# Altium footprint library Vyrodov.PcbLib: 62 footprints (part 1 of 5)
Each footprint in its own frame and in the unit in brackets; x right, y up, seen from the top. Pads: shape width x height; smd on the part's side, far side on the other; paste and mask are expansions set on the pad; w line width, h text height; cw(c..) or ccw(c..) is an arc to the next point about the centre after c.
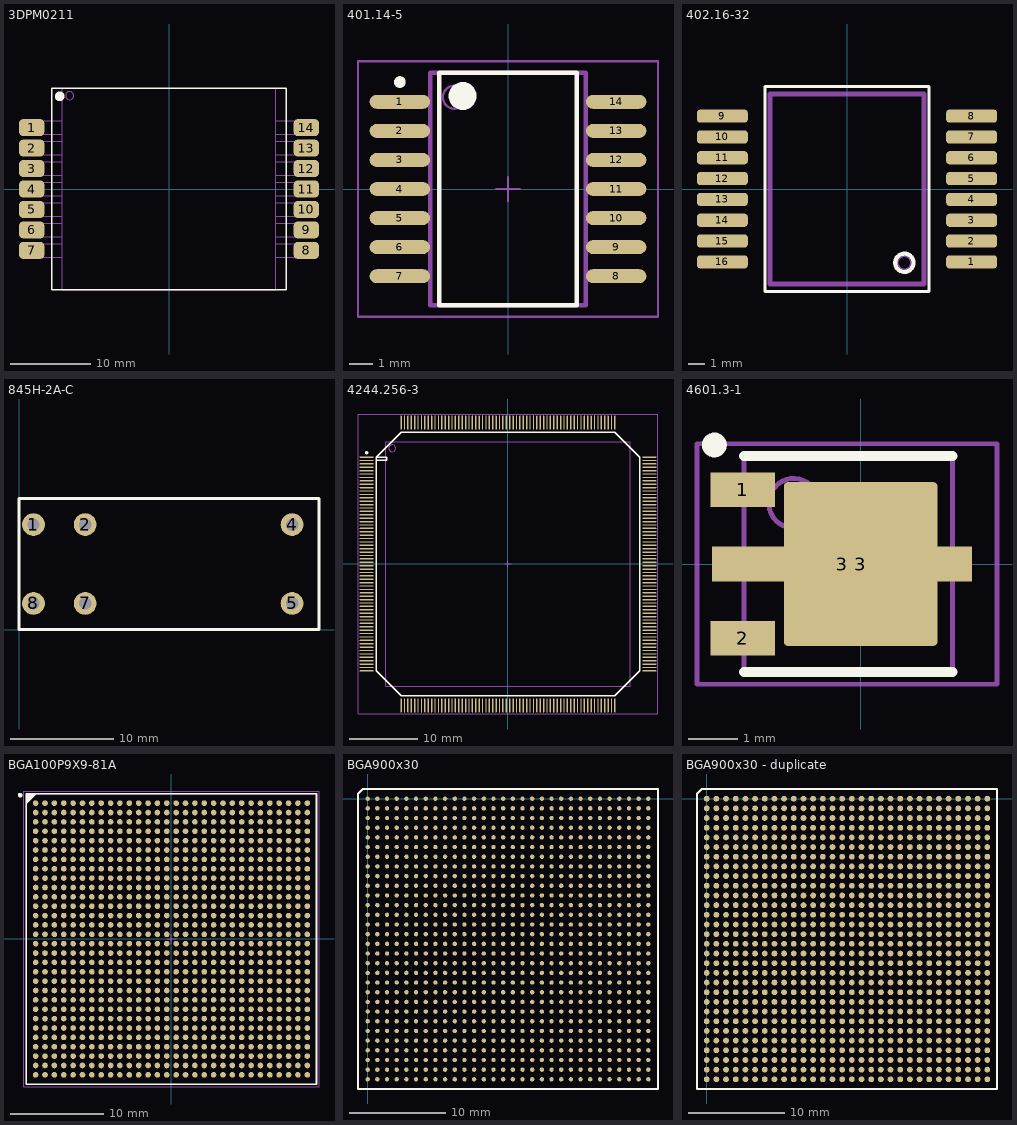
[diagram p0: the footprints below, top view; thin cyan lines are the x and y axes]

## 3DPM0211 [mm] "SOP, 14-Leads, Body 25,00x26,50mm, Pitch 2,54mm, IPC Low Density"
height 9.6
pads (14):
  rrect50% 3.15x2.1 smd: 1(-17.05,7.62) 2(-17.05,5.08) 3(-17.05,2.54) 4(-17.05,0) 5(-17.05,-2.54) 6(-17.05,-5.08) 7(-17.05,-7.62) 8(17.05,-7.62) 9(17.05,-5.08) 10(17.05,-2.54) 11(17.05,0) 12(17.05,2.54) 13(17.05,5.08) 14(17.05,7.62)
Top Overlay:
  circle w0.6: c-13.575,11.5 r0.3
  lines w0.2: -14.575,-12.5 14.575,-12.5 14.575,12.5 -14.575,12.5 -14.575,-12.5
Mechanical 13:
  circle w0.1: c-12.35,11.6 r0.5
  lines w0.1: -13.25,-8.46 -16.75,-8.46 -16.75,-6.78 -13.25,-6.78 ; -13.25,-5.92 -16.75,-5.92 -16.75,-4.24 -13.25,-4.24 ; -13.25,-3.38 -16.75,-3.38 -16.75,-1.7 -13.25,-1.7 ; -13.25,-0.84 -16.75,-0.84 -16.75,0.84 -13.25,0.84 ; -13.25,1.7 -16.75,1.7 -16.75,3.38 -13.25,3.38 ; -13.25,4.24 -16.75,4.24 -16.75,5.92 -13.25,5.92 ; -13.25,6.78 -16.75,6.78 -16.75,8.46 -13.25,8.46 ; 13.25,-8.46 16.75,-8.46 16.75,-6.78 13.25,-6.78 ; 13.25,-5.92 16.75,-5.92 16.75,-4.24 13.25,-4.24 ; 13.25,-3.38 16.75,-3.38 16.75,-1.7 13.25,-1.7 ; 13.25,-0.84 16.75,-0.84 16.75,0.84 13.25,0.84 ; 13.25,1.7 16.75,1.7 16.75,3.38 13.25,3.38 ; 13.25,4.24 16.75,4.24 16.75,5.92 13.25,5.92 ; 13.25,6.78 16.75,6.78 16.75,8.46 13.25,8.46 ; -13.25,-12.5 13.25,-12.5 13.25,12.5 -13.25,12.5 -13.25,-12.5
3D body: height 9.6, standoff 0.5, extent -13.25,-12.5 13.25,12.5
3D body: height 0.5, standoff 0, extent 13.25,-0.84 16.75,0.84
3D body: height 7, standoff 0, extent 12.92,-0.84 13.27,0.84
3D body: height 7, standoff 0, extent 12.92,1.7 13.27,3.38
3D body: height 0.5, standoff 0, extent 13.25,1.7 16.75,3.38
3D body: height 7, standoff 0, extent 12.92,4.24 13.27,5.92
3D body: height 0.5, standoff 0, extent 13.25,4.24 16.75,5.92
3D body: height 7, standoff 0, extent 12.92,6.78 13.27,8.46
3D body: height 0.5, standoff 0, extent 13.25,6.78 16.75,8.46
3D body: height 7, standoff 0, extent 12.92,-3.38 13.27,-1.7
3D body: height 0.5, standoff 0, extent 13.25,-3.38 16.75,-1.7
3D body: height 7, standoff 0, extent 12.92,-5.92 13.27,-4.24
3D body: height 0.5, standoff 0, extent 13.25,-5.92 16.75,-4.24
3D body: height 7, standoff 0, extent 12.92,-8.46 13.27,-6.78
3D body: height 0.5, standoff 0, extent 13.25,-8.46 16.75,-6.78
3D body: height 7, standoff 0, extent -13.27,6.78 -12.92,8.46
3D body: height 0.5, standoff 0, extent -16.75,6.78 -13.25,8.46
3D body: height 7, standoff 0, extent -13.27,4.24 -12.92,5.92
3D body: height 0.5, standoff 0, extent -16.75,4.24 -13.25,5.92
3D body: height 7, standoff 0, extent -13.27,1.7 -12.92,3.38
3D body: height 0.5, standoff 0, extent -16.75,1.7 -13.25,3.38
3D body: height 7, standoff 0, extent -13.27,-0.84 -12.92,0.84
3D body: height 0.5, standoff 0, extent -16.75,-0.84 -13.25,0.84
3D body: height 7, standoff 0, extent -13.27,-3.38 -12.92,-1.7
3D body: height 0.5, standoff 0, extent -16.75,-3.38 -13.25,-1.7
3D body: height 7, standoff 0, extent -13.27,-5.92 -12.92,-4.24
3D body: height 0.5, standoff 0, extent -16.75,-5.92 -13.25,-4.24
3D body: height 7, standoff 0, extent -13.27,-8.46 -12.92,-6.78
3D body: height 0.5, standoff 0, extent -16.75,-8.46 -13.25,-6.78

## 401.14-5 [mm]
height 1.97
pads (14):
  oval 2.6x0.6 smd: 1(-4.65,3.75) 2(-4.65,2.5) 3(-4.65,1.25) 4(-4.65,0) 5(-4.65,-1.25) 6(-4.65,-2.5) 7(-4.65,-3.75) 8(4.65,-3.75) 9(4.65,-2.5) 10(4.65,-1.25) 11(4.65,0) 12(4.65,1.25) 13(4.65,2.5) 14(4.65,3.75)
Top Overlay:
  circle w0.25: c-4.65,4.6 r0.125
  circle w0.6: c-1.95,4 r0.3
  lines w0.2: -2.95,-5 2.95,-5 2.95,5 -2.95,5 -2.95,-5
Mechanical 13:
  circle w0.1: c-2.3,3.95 r0.5
  lines w0.2: -3.35,-5 3.35,-5 3.35,5 -3.35,5 -3.35,-5
Mechanical 15:
  lines w0.1: -0.5,0 0.5,0 ; 0,-0.5 0,0.5 ; -6.45,-5.5 6.45,-5.5 6.45,5.5 -6.45,5.5 -6.45,-5.5
3D body: height 1.97, standoff 0.1, extent -3.35,-5 3.35,5

## 402.16-32 [mm]
height 2.5
pads (16):
  rrect50% 3.1x0.8 smd: 1(7.6,-4.445) 2(7.6,-3.175) 3(7.6,-1.905) 4(7.6,-0.635) 5(7.6,0.635) 6(7.6,1.905) 7(7.6,3.175) 8(7.6,4.445) 9(-7.6,4.445) 10(-7.6,3.175) 11(-7.6,1.905) 12(-7.6,0.635) 13(-7.6,-0.635) 14(-7.6,-1.905) 15(-7.6,-3.175) 16(-7.6,-4.445)
Top Overlay:
  circle w0.254: c3.5,-4.5 r0.559
  lines w0.2: -5,-6.25 5,-6.25 5,6.25 -5,6.25 -5,-6.25
Mechanical 13:
  circle w0.203: c3.5,-4.5 r0.447
  lines w0.305: -4.7,-5.8 4.7,-5.8 4.7,5.8 -4.7,5.8 -4.7,-5.8
3D body: height 2.5, standoff 0.05, extent -4.7,-5.8 4.7,5.8

## 845H-2A-C [mm] "Song Shuan 2 pole form 2A"
height 18.5
pads (6):
  round 2.2 hole 1.2: 1(1.4,10.16) 2(6.4,10.16) 4(26.4,10.16) 5(26.4,2.54) 7(6.4,2.54) 8(1.4,2.54)
Top Overlay:
  lines w0.3: 0,0 29,0 29,12.7 0,12.7 0,0
3D body "Реле 845.stp": height 18.5, standoff -3.5, extent 0,0 29,12.7

## 4244.256-3 [mm] "CQFP, 256-Leads, Body 42.8x42.8mm (max), Pitch 0.50mm, IPC Medium Density"
height 3.55
pads (256):
  rrect50% 2.05x0.2 smd: 1(-20.825,15.75) 2(-20.825,15.25) 3(-20.825,14.75) 4(-20.825,14.25) 5(-20.825,13.75) 6(-20.825,13.25) 7(-20.825,12.75) 8(-20.825,12.25) 9(-20.825,11.75) 10(-20.825,11.25) 11(-20.825,10.75) 12(-20.825,10.25) 13(-20.825,9.75) 14(-20.825,9.25) 15(-20.825,8.75) 16(-20.825,8.25) 17(-20.825,7.75) 18(-20.825,7.25) 19(-20.825,6.75) 20(-20.825,6.25) 21(-20.825,5.75) 22(-20.825,5.25) 23(-20.825,4.75) 24(-20.825,4.25) 25(-20.825,3.75) 26(-20.825,3.25) 27(-20.825,2.75) 28(-20.825,2.25) 29(-20.825,1.75) 30(-20.825,1.25) 31(-20.825,0.75) 32(-20.825,0.25) 33(-20.825,-0.25) 34(-20.825,-0.75) 35(-20.825,-1.25) 36(-20.825,-1.75) 37(-20.825,-2.25) 38(-20.825,-2.75) 39(-20.825,-3.25) 40(-20.825,-3.75) 41(-20.825,-4.25) 42(-20.825,-4.75) 43(-20.825,-5.25) 44(-20.825,-5.75) 45(-20.825,-6.25) 46(-20.825,-6.75) 47(-20.825,-7.25) 48(-20.825,-7.75) 49(-20.825,-8.25) 50(-20.825,-8.75) 51(-20.825,-9.25) 52(-20.825,-9.75) 53(-20.825,-10.25) 54(-20.825,-10.75) 55(-20.825,-11.25) 56(-20.825,-11.75) 57(-20.825,-12.25) 58(-20.825,-12.75) 59(-20.825,-13.25) 60(-20.825,-13.75) 61(-20.825,-14.25) 62(-20.825,-14.75) 63(-20.825,-15.25) 64(-20.825,-15.75) 129(20.825,-15.75) 130(20.825,-15.25) 131(20.825,-14.75) 132(20.825,-14.25) 133(20.825,-13.75) 134(20.825,-13.25) 135(20.825,-12.75) 136(20.825,-12.25) 137(20.825,-11.75) 138(20.825,-11.25) 139(20.825,-10.75) 140(20.825,-10.25) 141(20.825,-9.75) 142(20.825,-9.25) 143(20.825,-8.75) 144(20.825,-8.25) 145(20.825,-7.75) 146(20.825,-7.25) 147(20.825,-6.75) 148(20.825,-6.25) 149(20.825,-5.75) 150(20.825,-5.25) 151(20.825,-4.75) 152(20.825,-4.25) 153(20.825,-3.75) 154(20.825,-3.25) 155(20.825,-2.75) 156(20.825,-2.25) 157(20.825,-1.75) 158(20.825,-1.25) 159(20.825,-0.75) 160(20.825,-0.25) 161(20.825,0.25) 162(20.825,0.75) 163(20.825,1.25) 164(20.825,1.75) 165(20.825,2.25) 166(20.825,2.75) 167(20.825,3.25) 168(20.825,3.75) 169(20.825,4.25) 170(20.825,4.75) 171(20.825,5.25) 172(20.825,5.75) 173(20.825,6.25) 174(20.825,6.75) 175(20.825,7.25) 176(20.825,7.75) 177(20.825,8.25) 178(20.825,8.75) 179(20.825,9.25) 180(20.825,9.75) 181(20.825,10.25) 182(20.825,10.75) 183(20.825,11.25) 184(20.825,11.75) 185(20.825,12.25) 186(20.825,12.75) 187(20.825,13.25) 188(20.825,13.75) 189(20.825,14.25) 190(20.825,14.75) 191(20.825,15.25) 192(20.825,15.75)
  rrect50% 0.2x2.05 smd: 65(-15.75,-20.825) 66(-15.25,-20.825) 67(-14.75,-20.825) 68(-14.25,-20.825) 69(-13.75,-20.825) 70(-13.25,-20.825) 71(-12.75,-20.825) 72(-12.25,-20.825) 73(-11.75,-20.825) 74(-11.25,-20.825) 75(-10.75,-20.825) 76(-10.25,-20.825) 77(-9.75,-20.825) 78(-9.25,-20.825) 79(-8.75,-20.825) 80(-8.25,-20.825) 81(-7.75,-20.825) 82(-7.25,-20.825) 83(-6.75,-20.825) 84(-6.25,-20.825) 85(-5.75,-20.825) 86(-5.25,-20.825) 87(-4.75,-20.825) 88(-4.25,-20.825) 89(-3.75,-20.825) 90(-3.25,-20.825) 91(-2.75,-20.825) 92(-2.25,-20.825) 93(-1.75,-20.825) 94(-1.25,-20.825) 95(-0.75,-20.825) 96(-0.25,-20.825) 97(0.25,-20.825) 98(0.75,-20.825) 99(1.25,-20.825) 100(1.75,-20.825) 101(2.25,-20.825) 102(2.75,-20.825) 103(3.25,-20.825) 104(3.75,-20.825) 105(4.25,-20.825) 106(4.75,-20.825) 107(5.25,-20.825) 108(5.75,-20.825) 109(6.25,-20.825) 110(6.75,-20.825) 111(7.25,-20.825) 112(7.75,-20.825) 113(8.25,-20.825) 114(8.75,-20.825) 115(9.25,-20.825) 116(9.75,-20.825) 117(10.25,-20.825) 118(10.75,-20.825) 119(11.25,-20.825) 120(11.75,-20.825) 121(12.25,-20.825) 122(12.75,-20.825) 123(13.25,-20.825) 124(13.75,-20.825) 125(14.25,-20.825) 126(14.75,-20.825) 127(15.25,-20.825) 128(15.75,-20.825) 193(15.75,20.825) 194(15.25,20.825) 195(14.75,20.825) 196(14.25,20.825) 197(13.75,20.825) 198(13.25,20.825) 199(12.75,20.825) 200(12.25,20.825) 201(11.75,20.825) 202(11.25,20.825) 203(10.75,20.825) 204(10.25,20.825) 205(9.75,20.825) 206(9.25,20.825) 207(8.75,20.825) 208(8.25,20.825) 209(7.75,20.825) 210(7.25,20.825) 211(6.75,20.825) 212(6.25,20.825) 213(5.75,20.825) 214(5.25,20.825) 215(4.75,20.825) 216(4.25,20.825) 217(3.75,20.825) 218(3.25,20.825) 219(2.75,20.825) 220(2.25,20.825) 221(1.75,20.825) 222(1.25,20.825) 223(0.75,20.825) 224(0.25,20.825) 225(-0.25,20.825) 226(-0.75,20.825) 227(-1.25,20.825) 228(-1.75,20.825) 229(-2.25,20.825) 230(-2.75,20.825) 231(-3.25,20.825) 232(-3.75,20.825) 233(-4.25,20.825) 234(-4.75,20.825) 235(-5.25,20.825) 236(-5.75,20.825) 237(-6.25,20.825) 238(-6.75,20.825) 239(-7.25,20.825) 240(-7.75,20.825) 241(-8.25,20.825) 242(-8.75,20.825) 243(-9.25,20.825) 244(-9.75,20.825) 245(-10.25,20.825) 246(-10.75,20.825) 247(-11.25,20.825) 248(-11.75,20.825) 249(-12.25,20.825) 250(-12.75,20.825) 251(-13.25,20.825) 252(-13.75,20.825) 253(-14.25,20.825) 254(-14.75,20.825) 255(-15.25,20.825) 256(-15.75,20.825)
Top Overlay:
  circle w0.25: c-20.825,16.4 r0.125
  lines w0.2: -19.4,15.25 -17.9,15.25 -17.9,15.75 -19.4,15.75 ; -19.4,15.75 -19.4,-15.75 -15.75,-19.4 15.75,-19.4 19.4,-15.75 19.4,15.75 15.75,19.4 -15.75,19.4 -19.4,15.75
Mechanical 13:
  circle w0.1: c-17.05,17.05 r0.5
  lines w0.1: -18,-18 -18,18 18,18 18,-18 -18,-18
Mechanical 15:
  lines w0.1: -0.5,0 0.5,0 ; 0,-0.5 0,0.5 ; -22.1,-22.1 -22.1,22.1 22.1,22.1 22.1,-22.1 -22.1,-22.1
3D body: height 3.55, standoff 0.25, extent -18,-18 18,18

## 4601.3-1 [mm] "1345АП9Т АЯЕР.431310.843 ТУ"
height 1.6
pads (4):
  rect 1.3x0.7 smd: 1(-2.375,1.5) 2(-2.375,-1.5)
  rect 5.25x0.7 smd: 3(-0.375,0)
  rrect5% 3.1x3.3 smd: 3(0,0)
Top Overlay:
  circle w0.25: c-2.95,2.4 r0.125
  lines w0.2: -2.35,-2.175 1.85,-2.175 ; -2.35,2.175 1.85,2.175
Mechanical 13:
  circle w0.1: c-1.35,1.225 r0.5
  lines w0.1: -2.35,-2.175 1.85,-2.175 1.85,2.175 -2.35,2.175 -2.35,-2.175
Mechanical 15:
  lines w0.1: -0.5,0 0.5,0 ; 0,-0.5 0,0.5 ; -3.3,-2.425 2.75,-2.425 2.75,2.425 -3.3,2.425 -3.3,-2.425
3D body: height 1.6, standoff 0, extent -2.3,-2.175 1.8,2.175

## BGA100P9X9-81A [mm]
height 3.15
pads (900):
  round 0.6 smd: A1(-14.5,14.5) A2(-13.5,14.5) A3(-12.5,14.5) A4(-11.5,14.5) A5(-10.5,14.5) A6(-9.5,14.5) A7(-8.5,14.5) A8(-7.5,14.5) A9(-6.5,14.5) A10(-5.5,14.5) A11(-4.5,14.5) A12(-3.5,14.5) A13(-2.5,14.5) A14(-1.5,14.5) A15(-0.5,14.5) A16(0.5,14.5) A17(1.5,14.5) A18(2.5,14.5) A19(3.5,14.5) A20(4.5,14.5) A21(5.5,14.5) A22(6.5,14.5) A23(7.5,14.5) A24(8.5,14.5) A25(9.5,14.5) A26(10.5,14.5) A27(11.5,14.5) A28(12.5,14.5) A29(13.5,14.5) A30(14.5,14.5) AA1(-14.5,-5.5) AA2(-13.5,-5.5) AA3(-12.5,-5.5) AA4(-11.5,-5.5) AA5(-10.5,-5.5) AA6(-9.5,-5.5) AA7(-8.5,-5.5) AA8(-7.5,-5.5) AA9(-6.5,-5.5) AA10(-5.5,-5.5) AA11(-4.5,-5.5) AA12(-3.5,-5.5) AA13(-2.5,-5.5) AA14(-1.5,-5.5) AA15(-0.5,-5.5) AA16(0.5,-5.5) AA17(1.5,-5.5) AA18(2.5,-5.5) AA19(3.5,-5.5) AA20(4.5,-5.5) AA21(5.5,-5.5) AA22(6.5,-5.5) AA23(7.5,-5.5) AA24(8.5,-5.5) AA25(9.5,-5.5) AA26(10.5,-5.5) AA27(11.5,-5.5) AA28(12.5,-5.5) AA29(13.5,-5.5) AA30(14.5,-5.5) AB1(-14.5,-6.5) AB2(-13.5,-6.5) AB3(-12.5,-6.5) AB4(-11.5,-6.5) AB5(-10.5,-6.5) AB6(-9.5,-6.5) AB7(-8.5,-6.5) AB8(-7.5,-6.5) AB9(-6.5,-6.5) AB10(-5.5,-6.5) AB11(-4.5,-6.5) AB12(-3.5,-6.5) AB13(-2.5,-6.5) AB14(-1.5,-6.5) AB15(-0.5,-6.5) AB16(0.5,-6.5) AB17(1.5,-6.5) AB18(2.5,-6.5) AB19(3.5,-6.5) AB20(4.5,-6.5) AB21(5.5,-6.5) AB22(6.5,-6.5) AB23(7.5,-6.5) AB24(8.5,-6.5) AB25(9.5,-6.5) AB26(10.5,-6.5) AB27(11.5,-6.5) AB28(12.5,-6.5) AB29(13.5,-6.5) AB30(14.5,-6.5) AC1(-14.5,-7.5) AC2(-13.5,-7.5) AC3(-12.5,-7.5) AC4(-11.5,-7.5) AC5(-10.5,-7.5) AC6(-9.5,-7.5) AC7(-8.5,-7.5) AC8(-7.5,-7.5) AC9(-6.5,-7.5) AC10(-5.5,-7.5) AC11(-4.5,-7.5) AC12(-3.5,-7.5) AC13(-2.5,-7.5) AC14(-1.5,-7.5) AC15(-0.5,-7.5) AC16(0.5,-7.5) AC17(1.5,-7.5) AC18(2.5,-7.5) AC19(3.5,-7.5) AC20(4.5,-7.5) AC21(5.5,-7.5) AC22(6.5,-7.5) AC23(7.5,-7.5) AC24(8.5,-7.5) AC25(9.5,-7.5) AC26(10.5,-7.5) AC27(11.5,-7.5) AC28(12.5,-7.5) AC29(13.5,-7.5) AC30(14.5,-7.5) AD1(-14.5,-8.5) AD2(-13.5,-8.5) AD3(-12.5,-8.5) AD4(-11.5,-8.5) AD5(-10.5,-8.5) AD6(-9.5,-8.5) AD7(-8.5,-8.5) AD8(-7.5,-8.5) AD9(-6.5,-8.5) AD10(-5.5,-8.5) AD11(-4.5,-8.5) AD12(-3.5,-8.5) AD13(-2.5,-8.5) AD14(-1.5,-8.5) AD15(-0.5,-8.5) AD16(0.5,-8.5) AD17(1.5,-8.5) AD18(2.5,-8.5) AD19(3.5,-8.5) AD20(4.5,-8.5) AD21(5.5,-8.5) AD22(6.5,-8.5) AD23(7.5,-8.5) AD24(8.5,-8.5) AD25(9.5,-8.5) AD26(10.5,-8.5) AD27(11.5,-8.5) AD28(12.5,-8.5) AD29(13.5,-8.5) AD30(14.5,-8.5) AE1(-14.5,-9.5) AE2(-13.5,-9.5) AE3(-12.5,-9.5) AE4(-11.5,-9.5) AE5(-10.5,-9.5) AE6(-9.5,-9.5) AE7(-8.5,-9.5) AE8(-7.5,-9.5) AE9(-6.5,-9.5) AE10(-5.5,-9.5) AE11(-4.5,-9.5) AE12(-3.5,-9.5) AE13(-2.5,-9.5) AE14(-1.5,-9.5) AE15(-0.5,-9.5) AE16(0.5,-9.5) AE17(1.5,-9.5) AE18(2.5,-9.5) AE19(3.5,-9.5) AE20(4.5,-9.5) AE21(5.5,-9.5) AE22(6.5,-9.5) AE23(7.5,-9.5) AE24(8.5,-9.5) AE25(9.5,-9.5) AE26(10.5,-9.5) AE27(11.5,-9.5) AE28(12.5,-9.5) AE29(13.5,-9.5) AE30(14.5,-9.5) AF1(-14.5,-10.5) AF2(-13.5,-10.5) AF3(-12.5,-10.5) AF4(-11.5,-10.5) AF5(-10.5,-10.5) AF6(-9.5,-10.5) AF7(-8.5,-10.5) AF8(-7.5,-10.5) AF9(-6.5,-10.5) AF10(-5.5,-10.5) AF11(-4.5,-10.5) AF12(-3.5,-10.5) AF13(-2.5,-10.5) AF14(-1.5,-10.5) AF15(-0.5,-10.5) AF16(0.5,-10.5) AF17(1.5,-10.5) AF18(2.5,-10.5) AF19(3.5,-10.5) AF20(4.5,-10.5) AF21(5.5,-10.5) AF22(6.5,-10.5) AF23(7.5,-10.5) AF24(8.5,-10.5) AF25(9.5,-10.5) AF26(10.5,-10.5) AF27(11.5,-10.5) AF28(12.5,-10.5) AF29(13.5,-10.5) AF30(14.5,-10.5) AG1(-14.5,-11.5) AG2(-13.5,-11.5) AG3(-12.5,-11.5) AG4(-11.5,-11.5) AG5(-10.5,-11.5) AG6(-9.5,-11.5) AG7(-8.5,-11.5) AG8(-7.5,-11.5) AG9(-6.5,-11.5) AG10(-5.5,-11.5) AG11(-4.5,-11.5) AG12(-3.5,-11.5) AG13(-2.5,-11.5) AG14(-1.5,-11.5) AG15(-0.5,-11.5) AG16(0.5,-11.5) AG17(1.5,-11.5) AG18(2.5,-11.5) AG19(3.5,-11.5) AG20(4.5,-11.5) AG21(5.5,-11.5) AG22(6.5,-11.5) AG23(7.5,-11.5) AG24(8.5,-11.5) AG25(9.5,-11.5) AG26(10.5,-11.5) AG27(11.5,-11.5) AG28(12.5,-11.5) AG29(13.5,-11.5) AG30(14.5,-11.5) AH1(-14.5,-12.5) AH2(-13.5,-12.5) AH3(-12.5,-12.5) AH4(-11.5,-12.5) AH5(-10.5,-12.5) AH6(-9.5,-12.5) AH7(-8.5,-12.5) AH8(-7.5,-12.5) AH9(-6.5,-12.5) AH10(-5.5,-12.5) AH11(-4.5,-12.5) AH12(-3.5,-12.5) AH13(-2.5,-12.5) AH14(-1.5,-12.5) AH15(-0.5,-12.5) AH16(0.5,-12.5) AH17(1.5,-12.5) AH18(2.5,-12.5) AH19(3.5,-12.5) AH20(4.5,-12.5) AH21(5.5,-12.5) AH22(6.5,-12.5) AH23(7.5,-12.5) AH24(8.5,-12.5) AH25(9.5,-12.5) AH26(10.5,-12.5) AH27(11.5,-12.5) AH28(12.5,-12.5) AH29(13.5,-12.5) AH30(14.5,-12.5) AJ1(-14.5,-13.5) AJ2(-13.5,-13.5) AJ3(-12.5,-13.5) AJ4(-11.5,-13.5) AJ5(-10.5,-13.5) AJ6(-9.5,-13.5) AJ7(-8.5,-13.5) AJ8(-7.5,-13.5) AJ9(-6.5,-13.5) AJ10(-5.5,-13.5) AJ11(-4.5,-13.5) AJ12(-3.5,-13.5) AJ13(-2.5,-13.5) AJ14(-1.5,-13.5) AJ15(-0.5,-13.5) AJ16(0.5,-13.5) AJ17(1.5,-13.5) AJ18(2.5,-13.5) AJ19(3.5,-13.5) AJ20(4.5,-13.5) AJ21(5.5,-13.5) AJ22(6.5,-13.5) AJ23(7.5,-13.5) AJ24(8.5,-13.5) AJ25(9.5,-13.5) AJ26(10.5,-13.5) AJ27(11.5,-13.5) AJ28(12.5,-13.5) AJ29(13.5,-13.5) AJ30(14.5,-13.5) AK1(-14.5,-14.5) AK2(-13.5,-14.5) AK3(-12.5,-14.5) AK4(-11.5,-14.5) AK5(-10.5,-14.5) AK6(-9.5,-14.5) AK7(-8.5,-14.5) AK8(-7.5,-14.5) AK9(-6.5,-14.5) AK10(-5.5,-14.5) AK11(-4.5,-14.5) AK12(-3.5,-14.5) AK13(-2.5,-14.5) AK14(-1.5,-14.5) AK15(-0.5,-14.5) AK16(0.5,-14.5) AK17(1.5,-14.5) AK18(2.5,-14.5) AK19(3.5,-14.5) AK20(4.5,-14.5) AK21(5.5,-14.5) AK22(6.5,-14.5) AK23(7.5,-14.5) AK24(8.5,-14.5) AK25(9.5,-14.5) AK26(10.5,-14.5) AK27(11.5,-14.5) AK28(12.5,-14.5) AK29(13.5,-14.5) AK30(14.5,-14.5) B1(-14.5,13.5) B2(-13.5,13.5) B3(-12.5,13.5) B4(-11.5,13.5) B5(-10.5,13.5) B6(-9.5,13.5) B7(-8.5,13.5) B8(-7.5,13.5) B9(-6.5,13.5) B10(-5.5,13.5) B11(-4.5,13.5) B12(-3.5,13.5) B13(-2.5,13.5) B14(-1.5,13.5) B15(-0.5,13.5) B16(0.5,13.5) B17(1.5,13.5) B18(2.5,13.5) B19(3.5,13.5) B20(4.5,13.5) B21(5.5,13.5) B22(6.5,13.5) B23(7.5,13.5) B24(8.5,13.5) B25(9.5,13.5) B26(10.5,13.5) B27(11.5,13.5) B28(12.5,13.5) B29(13.5,13.5) B30(14.5,13.5) C1(-14.5,12.5) C2(-13.5,12.5) C3(-12.5,12.5) C4(-11.5,12.5) C5(-10.5,12.5) C6(-9.5,12.5) C7(-8.5,12.5) C8(-7.5,12.5) C9(-6.5,12.5) C10(-5.5,12.5) C11(-4.5,12.5) C12(-3.5,12.5) C13(-2.5,12.5) C14(-1.5,12.5) C15(-0.5,12.5) C16(0.5,12.5) C17(1.5,12.5) C18(2.5,12.5) C19(3.5,12.5) C20(4.5,12.5) C21(5.5,12.5) C22(6.5,12.5) C23(7.5,12.5) C24(8.5,12.5) C25(9.5,12.5) C26(10.5,12.5) C27(11.5,12.5) C28(12.5,12.5) C29(13.5,12.5) C30(14.5,12.5) D1(-14.5,11.5) D2(-13.5,11.5) D3(-12.5,11.5) D4(-11.5,11.5) D5(-10.5,11.5) D6(-9.5,11.5) D7(-8.5,11.5) D8(-7.5,11.5) D9(-6.5,11.5) D10(-5.5,11.5) D11(-4.5,11.5) D12(-3.5,11.5) D13(-2.5,11.5) D14(-1.5,11.5) D15(-0.5,11.5) D16(0.5,11.5) D17(1.5,11.5) D18(2.5,11.5) D19(3.5,11.5) D20(4.5,11.5) D21(5.5,11.5) D22(6.5,11.5) D23(7.5,11.5) D24(8.5,11.5) D25(9.5,11.5) D26(10.5,11.5) D27(11.5,11.5) D28(12.5,11.5) D29(13.5,11.5) D30(14.5,11.5) E1(-14.5,10.5) E2(-13.5,10.5) E3(-12.5,10.5) E4(-11.5,10.5) E5(-10.5,10.5) E6(-9.5,10.5) E7(-8.5,10.5) E8(-7.5,10.5) E9(-6.5,10.5) E10(-5.5,10.5) E11(-4.5,10.5) E12(-3.5,10.5) E13(-2.5,10.5) E14(-1.5,10.5) E15(-0.5,10.5) E16(0.5,10.5) E17(1.5,10.5) E18(2.5,10.5) E19(3.5,10.5) E20(4.5,10.5) E21(5.5,10.5) E22(6.5,10.5) E23(7.5,10.5) E24(8.5,10.5) E25(9.5,10.5) E26(10.5,10.5) E27(11.5,10.5) E28(12.5,10.5) E29(13.5,10.5) E30(14.5,10.5) F1(-14.5,9.5) F2(-13.5,9.5) F3(-12.5,9.5) F4(-11.5,9.5) F5(-10.5,9.5) F6(-9.5,9.5) F7(-8.5,9.5) F8(-7.5,9.5) F9(-6.5,9.5) F10(-5.5,9.5) F11(-4.5,9.5) F12(-3.5,9.5) F13(-2.5,9.5) F14(-1.5,9.5) F15(-0.5,9.5) F16(0.5,9.5) F17(1.5,9.5) F18(2.5,9.5) F19(3.5,9.5) F20(4.5,9.5) F21(5.5,9.5) F22(6.5,9.5) F23(7.5,9.5) F24(8.5,9.5) F25(9.5,9.5) F26(10.5,9.5) F27(11.5,9.5) F28(12.5,9.5) F29(13.5,9.5) F30(14.5,9.5) G1(-14.5,8.5) G2(-13.5,8.5) G3(-12.5,8.5) G4(-11.5,8.5) G5(-10.5,8.5) G6(-9.5,8.5) G7(-8.5,8.5) G8(-7.5,8.5) G9(-6.5,8.5) G10(-5.5,8.5) G11(-4.5,8.5) G12(-3.5,8.5) G13(-2.5,8.5) G14(-1.5,8.5) G15(-0.5,8.5) G16(0.5,8.5) G17(1.5,8.5) G18(2.5,8.5) G19(3.5,8.5) G20(4.5,8.5) G21(5.5,8.5) G22(6.5,8.5) G23(7.5,8.5) G24(8.5,8.5) G25(9.5,8.5) G26(10.5,8.5) G27(11.5,8.5) G28(12.5,8.5) G29(13.5,8.5) G30(14.5,8.5) H1(-14.5,7.5) H2(-13.5,7.5) H3(-12.5,7.5) H4(-11.5,7.5) H5(-10.5,7.5) H6(-9.5,7.5) H7(-8.5,7.5) H8(-7.5,7.5) H9(-6.5,7.5) H10(-5.5,7.5) H11(-4.5,7.5) H12(-3.5,7.5) H13(-2.5,7.5) H14(-1.5,7.5) H15(-0.5,7.5) H16(0.5,7.5) H17(1.5,7.5) H18(2.5,7.5) H19(3.5,7.5) H20(4.5,7.5) H21(5.5,7.5) H22(6.5,7.5) H23(7.5,7.5) H24(8.5,7.5) H25(9.5,7.5) H26(10.5,7.5) H27(11.5,7.5) H28(12.5,7.5) H29(13.5,7.5) H30(14.5,7.5) J1(-14.5,6.5) J2(-13.5,6.5) J3(-12.5,6.5) J4(-11.5,6.5) J5(-10.5,6.5) J6(-9.5,6.5) J7(-8.5,6.5) J8(-7.5,6.5) J9(-6.5,6.5) J10(-5.5,6.5) J11(-4.5,6.5) J12(-3.5,6.5) J13(-2.5,6.5) J14(-1.5,6.5) J15(-0.5,6.5) J16(0.5,6.5) J17(1.5,6.5) J18(2.5,6.5) J19(3.5,6.5) J20(4.5,6.5) J21(5.5,6.5) J22(6.5,6.5) J23(7.5,6.5) J24(8.5,6.5) J25(9.5,6.5) J26(10.5,6.5) J27(11.5,6.5) J28(12.5,6.5) J29(13.5,6.5) J30(14.5,6.5) K1(-14.5,5.5) K2(-13.5,5.5) K3(-12.5,5.5) K4(-11.5,5.5) K5(-10.5,5.5) K6(-9.5,5.5) K7(-8.5,5.5) K8(-7.5,5.5) K9(-6.5,5.5) K10(-5.5,5.5) K11(-4.5,5.5) K12(-3.5,5.5) K13(-2.5,5.5) K14(-1.5,5.5) K15(-0.5,5.5) K16(0.5,5.5) K17(1.5,5.5) K18(2.5,5.5) K19(3.5,5.5) K20(4.5,5.5) K21(5.5,5.5) K22(6.5,5.5) K23(7.5,5.5) K24(8.5,5.5) K25(9.5,5.5) K26(10.5,5.5) K27(11.5,5.5) K28(12.5,5.5) K29(13.5,5.5) K30(14.5,5.5) L1(-14.5,4.5) L2(-13.5,4.5) L3(-12.5,4.5) L4(-11.5,4.5) L5(-10.5,4.5) L6(-9.5,4.5) L7(-8.5,4.5) L8(-7.5,4.5) L9(-6.5,4.5) L10(-5.5,4.5) L11(-4.5,4.5) L12(-3.5,4.5) L13(-2.5,4.5) L14(-1.5,4.5) L15(-0.5,4.5) L16(0.5,4.5) L17(1.5,4.5) L18(2.5,4.5) L19(3.5,4.5) L20(4.5,4.5) L21(5.5,4.5) L22(6.5,4.5) L23(7.5,4.5) L24(8.5,4.5) L25(9.5,4.5) L26(10.5,4.5) L27(11.5,4.5) L28(12.5,4.5) L29(13.5,4.5) L30(14.5,4.5) M1(-14.5,3.5) M2(-13.5,3.5) M3(-12.5,3.5) M4(-11.5,3.5) M5(-10.5,3.5) M6(-9.5,3.5) M7(-8.5,3.5) M8(-7.5,3.5) M9(-6.5,3.5) M10(-5.5,3.5) M11(-4.5,3.5) M12(-3.5,3.5) M13(-2.5,3.5) M14(-1.5,3.5) M15(-0.5,3.5) M16(0.5,3.5) M17(1.5,3.5) M18(2.5,3.5) M19(3.5,3.5) M20(4.5,3.5) M21(5.5,3.5) M22(6.5,3.5) M23(7.5,3.5) M24(8.5,3.5) M25(9.5,3.5) M26(10.5,3.5) M27(11.5,3.5) M28(12.5,3.5) M29(13.5,3.5) M30(14.5,3.5) N1(-14.5,2.5) N2(-13.5,2.5) N3(-12.5,2.5) N4(-11.5,2.5) N5(-10.5,2.5) N6(-9.5,2.5) N7(-8.5,2.5) N8(-7.5,2.5) N9(-6.5,2.5) N10(-5.5,2.5) N11(-4.5,2.5) N12(-3.5,2.5) N13(-2.5,2.5) N14(-1.5,2.5) N15(-0.5,2.5) N16(0.5,2.5) N17(1.5,2.5) N18(2.5,2.5) N19(3.5,2.5) N20(4.5,2.5) N21(5.5,2.5) N22(6.5,2.5) N23(7.5,2.5) N24(8.5,2.5) N25(9.5,2.5) N26(10.5,2.5) N27(11.5,2.5) N28(12.5,2.5) N29(13.5,2.5) N30(14.5,2.5) P1(-14.5,1.5) P2(-13.5,1.5) P3(-12.5,1.5) P4(-11.5,1.5) P5(-10.5,1.5) P6(-9.5,1.5) P7(-8.5,1.5) P8(-7.5,1.5) P9(-6.5,1.5) P10(-5.5,1.5) P11(-4.5,1.5) P12(-3.5,1.5) P13(-2.5,1.5) P14(-1.5,1.5) P15(-0.5,1.5) P16(0.5,1.5) P17(1.5,1.5) P18(2.5,1.5) P19(3.5,1.5) P20(4.5,1.5) P21(5.5,1.5) P22(6.5,1.5) P23(7.5,1.5) P24(8.5,1.5) P25(9.5,1.5) P26(10.5,1.5) P27(11.5,1.5) P28(12.5,1.5) P29(13.5,1.5) P30(14.5,1.5) R1(-14.5,0.5) R2(-13.5,0.5) R3(-12.5,0.5) R4(-11.5,0.5) R5(-10.5,0.5) R6(-9.5,0.5) R7(-8.5,0.5) R8(-7.5,0.5) R9(-6.5,0.5) R10(-5.5,0.5) R11(-4.5,0.5) R12(-3.5,0.5) R13(-2.5,0.5) R14(-1.5,0.5) R15(-0.5,0.5) R16(0.5,0.5) R17(1.5,0.5) R18(2.5,0.5) R19(3.5,0.5) R20(4.5,0.5) R21(5.5,0.5) R22(6.5,0.5) R23(7.5,0.5) R24(8.5,0.5) R25(9.5,0.5) R26(10.5,0.5) R27(11.5,0.5) R28(12.5,0.5) R29(13.5,0.5) R30(14.5,0.5) T1(-14.5,-0.5) T2(-13.5,-0.5) T3(-12.5,-0.5) T4(-11.5,-0.5) T5(-10.5,-0.5) T6(-9.5,-0.5) T7(-8.5,-0.5) T8(-7.5,-0.5) T9(-6.5,-0.5) T10(-5.5,-0.5) T11(-4.5,-0.5) T12(-3.5,-0.5) T13(-2.5,-0.5) T14(-1.5,-0.5) T15(-0.5,-0.5) T16(0.5,-0.5) T17(1.5,-0.5) T18(2.5,-0.5) T19(3.5,-0.5) T20(4.5,-0.5) T21(5.5,-0.5) T22(6.5,-0.5) T23(7.5,-0.5) T24(8.5,-0.5) T25(9.5,-0.5) T26(10.5,-0.5) T27(11.5,-0.5) T28(12.5,-0.5) T29(13.5,-0.5) T30(14.5,-0.5) U1(-14.5,-1.5) U2(-13.5,-1.5) U3(-12.5,-1.5) U4(-11.5,-1.5) U5(-10.5,-1.5) U6(-9.5,-1.5) U7(-8.5,-1.5) U8(-7.5,-1.5) U9(-6.5,-1.5) U10(-5.5,-1.5) U11(-4.5,-1.5) U12(-3.5,-1.5) U13(-2.5,-1.5) U14(-1.5,-1.5) U15(-0.5,-1.5) U16(0.5,-1.5) U17(1.5,-1.5) U18(2.5,-1.5) U19(3.5,-1.5) U20(4.5,-1.5) U21(5.5,-1.5) U22(6.5,-1.5) U23(7.5,-1.5) U24(8.5,-1.5) U25(9.5,-1.5) U26(10.5,-1.5) U27(11.5,-1.5) U28(12.5,-1.5) U29(13.5,-1.5) U30(14.5,-1.5) V1(-14.5,-2.5) V2(-13.5,-2.5) V3(-12.5,-2.5) V4(-11.5,-2.5) V5(-10.5,-2.5) V6(-9.5,-2.5) V7(-8.5,-2.5) V8(-7.5,-2.5) V9(-6.5,-2.5) V10(-5.5,-2.5) V11(-4.5,-2.5) V12(-3.5,-2.5) V13(-2.5,-2.5) V14(-1.5,-2.5) V15(-0.5,-2.5) V16(0.5,-2.5) V17(1.5,-2.5) V18(2.5,-2.5) V19(3.5,-2.5) V20(4.5,-2.5) V21(5.5,-2.5) V22(6.5,-2.5) V23(7.5,-2.5) V24(8.5,-2.5) V25(9.5,-2.5) V26(10.5,-2.5) V27(11.5,-2.5) V28(12.5,-2.5) V29(13.5,-2.5) V30(14.5,-2.5) W1(-14.5,-3.5) W2(-13.5,-3.5) W3(-12.5,-3.5) W4(-11.5,-3.5) W5(-10.5,-3.5) W6(-9.5,-3.5) W7(-8.5,-3.5) W8(-7.5,-3.5) W9(-6.5,-3.5) W10(-5.5,-3.5) W11(-4.5,-3.5) W12(-3.5,-3.5) W13(-2.5,-3.5) W14(-1.5,-3.5) W15(-0.5,-3.5) W16(0.5,-3.5) W17(1.5,-3.5) W18(2.5,-3.5) W19(3.5,-3.5) W20(4.5,-3.5) W21(5.5,-3.5) W22(6.5,-3.5) W23(7.5,-3.5) W24(8.5,-3.5) W25(9.5,-3.5) W26(10.5,-3.5) W27(11.5,-3.5) W28(12.5,-3.5) W29(13.5,-3.5) W30(14.5,-3.5) Y1(-14.5,-4.5) Y2(-13.5,-4.5) Y3(-12.5,-4.5) Y4(-11.5,-4.5) Y5(-10.5,-4.5) Y6(-9.5,-4.5) Y7(-8.5,-4.5) Y8(-7.5,-4.5) Y9(-6.5,-4.5) Y10(-5.5,-4.5) Y11(-4.5,-4.5) Y12(-3.5,-4.5) Y13(-2.5,-4.5) Y14(-1.5,-4.5) Y15(-0.5,-4.5) Y16(0.5,-4.5) Y17(1.5,-4.5) Y18(2.5,-4.5) Y19(3.5,-4.5) Y20(4.5,-4.5) Y21(5.5,-4.5) Y22(6.5,-4.5) Y23(7.5,-4.5) Y24(8.5,-4.5) Y25(9.5,-4.5) Y26(10.5,-4.5) Y27(11.5,-4.5) Y28(12.5,-4.5) Y29(13.5,-4.5) Y30(14.5,-4.5)
Top Overlay:
  circle w0.25: c-16.15,15.35 r0.125
  region: -14.5,15.5 -15.5,14.5 -15.5,15.5
  lines w0.2: -15.5,14.5 -14.5,15.5 ; -15.5,-15.5 15.5,-15.5 15.5,15.5 -15.5,15.5 -15.5,-15.5
Mechanical 13:
  lines w0.1: -15.5,-15.5 15.5,-15.5 15.5,15.5 -15.5,15.5 -15.5,-15.5
Mechanical 15:
  lines w0.1: -0.5,0 0.5,0 ; 0,-0.5 0,0.5 ; -15.75,-15.75 15.75,-15.75 15.75,15.75 -15.75,15.75 -15.75,-15.75
3D body: height 3.15, standoff 0.5, extent -15.5,-15.5 15.5,15.5

## BGA900x30 [mm]
pads (900):
  round 0.45 smd: A1(0,0) A2(1,0) A3(2,0) A4(3,0) A5(4,0) A6(5,0) A7(6,0) A8(7,0) A9(8,0) A10(9,0) A11(10,0) A12(11,0) A13(12,0) A14(13,0) A15(14,0) A16(15,0) A17(16,0) A18(17,0) A19(18,0) A20(19,0) A21(20,0) A22(21,0) A23(22,0) A24(23,0) A25(24,0) A26(25,0) A27(26,0) A28(27,0) A29(28,0) A30(29,0) AA1(0,-20) AA2(1,-20) AA3(2,-20) AA4(3,-20) AA5(4,-20) AA6(5,-20) AA7(6,-20) AA8(7,-20) AA9(8,-20) AA10(9,-20) AA11(10,-20) AA12(11,-20) AA13(12,-20) AA14(13,-20) AA15(14,-20) AA16(15,-20) AA17(16,-20) AA18(17,-20) AA19(18,-20) AA20(19,-20) AA21(20,-20) AA22(21,-20) AA23(22,-20) AA24(23,-20) AA25(24,-20) AA26(25,-20) AA27(26,-20) AA28(27,-20) AA29(28,-20) AA30(29,-20) AB1(0,-21) AB2(1,-21) AB3(2,-21) AB4(3,-21) AB5(4,-21) AB6(5,-21) AB7(6,-21) AB8(7,-21) AB9(8,-21) AB10(9,-21) AB11(10,-21) AB12(11,-21) AB13(12,-21) AB14(13,-21) AB15(14,-21) AB16(15,-21) AB17(16,-21) AB18(17,-21) AB19(18,-21) AB20(19,-21) AB21(20,-21) AB22(21,-21) AB23(22,-21) AB24(23,-21) AB25(24,-21) AB26(25,-21) AB27(26,-21) AB28(27,-21) AB29(28,-21) AB30(29,-21) AC1(0,-22) AC2(1,-22) AC3(2,-22) AC4(3,-22) AC5(4,-22) AC6(5,-22) AC7(6,-22) AC8(7,-22) AC9(8,-22) AC10(9,-22) AC11(10,-22) AC12(11,-22) AC13(12,-22) AC14(13,-22) AC15(14,-22) AC16(15,-22) AC17(16,-22) AC18(17,-22) AC19(18,-22) AC20(19,-22) AC21(20,-22) AC22(21,-22) AC23(22,-22) AC24(23,-22) AC25(24,-22) AC26(25,-22) AC27(26,-22) AC28(27,-22) AC29(28,-22) AC30(29,-22) AD1(0,-23) AD2(1,-23) AD3(2,-23) AD4(3,-23) AD5(4,-23) AD6(5,-23) AD7(6,-23) AD8(7,-23) AD9(8,-23) AD10(9,-23) AD11(10,-23) AD12(11,-23) AD13(12,-23) AD14(13,-23) AD15(14,-23) AD16(15,-23) AD17(16,-23) AD18(17,-23) AD19(18,-23) AD20(19,-23) AD21(20,-23) AD22(21,-23) AD23(22,-23) AD24(23,-23) AD25(24,-23) AD26(25,-23) AD27(26,-23) AD28(27,-23) AD29(28,-23) AD30(29,-23) AE1(0,-24) AE2(1,-24) AE3(2,-24) AE4(3,-24) AE5(4,-24) AE6(5,-24) AE7(6,-24) AE8(7,-24) AE9(8,-24) AE10(9,-24) AE11(10,-24) AE12(11,-24) AE13(12,-24) AE14(13,-24) AE15(14,-24) AE16(15,-24) AE17(16,-24) AE18(17,-24) AE19(18,-24) AE20(19,-24) AE21(20,-24) AE22(21,-24) AE23(22,-24) AE24(23,-24) AE25(24,-24) AE26(25,-24) AE27(26,-24) AE28(27,-24) AE29(28,-24) AE30(29,-24) AF1(0,-25) AF2(1,-25) AF3(2,-25) AF4(3,-25) AF5(4,-25) AF6(5,-25) AF7(6,-25) AF8(7,-25) AF9(8,-25) AF10(9,-25) AF11(10,-25) AF12(11,-25) AF13(12,-25) AF14(13,-25) AF15(14,-25) AF16(15,-25) AF17(16,-25) AF18(17,-25) AF19(18,-25) AF20(19,-25) AF21(20,-25) AF22(21,-25) AF23(22,-25) AF24(23,-25) AF25(24,-25) AF26(25,-25) AF27(26,-25) AF28(27,-25) AF29(28,-25) AF30(29,-25) AG1(0,-26) AG2(1,-26) AG3(2,-26) AG4(3,-26) AG5(4,-26) AG6(5,-26) AG7(6,-26) AG8(7,-26) AG9(8,-26) AG10(9,-26) AG11(10,-26) AG12(11,-26) AG13(12,-26) AG14(13,-26) AG15(14,-26) AG16(15,-26) AG17(16,-26) AG18(17,-26) AG19(18,-26) AG20(19,-26) AG21(20,-26) AG22(21,-26) AG23(22,-26) AG24(23,-26) AG25(24,-26) AG26(25,-26) AG27(26,-26) AG28(27,-26) AG29(28,-26) AG30(29,-26) AH1(0,-27) AH2(1,-27) AH3(2,-27) AH4(3,-27) AH5(4,-27) AH6(5,-27) AH7(6,-27) AH8(7,-27) AH9(8,-27) AH10(9,-27) AH11(10,-27) AH12(11,-27) AH13(12,-27) AH14(13,-27) AH15(14,-27) AH16(15,-27) AH17(16,-27) AH18(17,-27) AH19(18,-27) AH20(19,-27) AH21(20,-27) AH22(21,-27) AH23(22,-27) AH24(23,-27) AH25(24,-27) AH26(25,-27) AH27(26,-27) AH28(27,-27) AH29(28,-27) AH30(29,-27) AJ1(0,-28) AJ2(1,-28) AJ3(2,-28) AJ4(3,-28) AJ5(4,-28) AJ6(5,-28) AJ7(6,-28) AJ8(7,-28) AJ9(8,-28) AJ10(9,-28) AJ11(10,-28) AJ12(11,-28) AJ13(12,-28) AJ14(13,-28) AJ15(14,-28) AJ16(15,-28) AJ17(16,-28) AJ18(17,-28) AJ19(18,-28) AJ20(19,-28) AJ21(20,-28) AJ22(21,-28) AJ23(22,-28) AJ24(23,-28) AJ25(24,-28) AJ26(25,-28) AJ27(26,-28) AJ28(27,-28) AJ29(28,-28) AJ30(29,-28) AK1(0,-29) AK2(1,-29) AK3(2,-29) AK4(3,-29) AK5(4,-29) AK6(5,-29) AK7(6,-29) AK8(7,-29) AK9(8,-29) AK10(9,-29) AK11(10,-29) AK12(11,-29) AK13(12,-29) AK14(13,-29) AK15(14,-29) AK16(15,-29) AK17(16,-29) AK18(17,-29) AK19(18,-29) AK20(19,-29) AK21(20,-29) AK22(21,-29) AK23(22,-29) AK24(23,-29) AK25(24,-29) AK26(25,-29) AK27(26,-29) AK28(27,-29) AK29(28,-29) AK30(29,-29) B1(0,-1) B2(1,-1) B3(2,-1) B4(3,-1) B5(4,-1) B6(5,-1) B7(6,-1) B8(7,-1) B9(8,-1) B10(9,-1) B11(10,-1) B12(11,-1) B13(12,-1) B14(13,-1) B15(14,-1) B16(15,-1) B17(16,-1) B18(17,-1) B19(18,-1) B20(19,-1) B21(20,-1) B22(21,-1) B23(22,-1) B24(23,-1) B25(24,-1) B26(25,-1) B27(26,-1) B28(27,-1) B29(28,-1) B30(29,-1) C1(0,-2) C2(1,-2) C3(2,-2) C4(3,-2) C5(4,-2) C6(5,-2) C7(6,-2) C8(7,-2) C9(8,-2) C10(9,-2) C11(10,-2) C12(11,-2) C13(12,-2) C14(13,-2) C15(14,-2) C16(15,-2) C17(16,-2) C18(17,-2) C19(18,-2) C20(19,-2) C21(20,-2) C22(21,-2) C23(22,-2) C24(23,-2) C25(24,-2) C26(25,-2) C27(26,-2) C28(27,-2) C29(28,-2) C30(29,-2) D1(0,-3) D2(1,-3) D3(2,-3) D4(3,-3) D5(4,-3) D6(5,-3) D7(6,-3) D8(7,-3) D9(8,-3) D10(9,-3) D11(10,-3) D12(11,-3) D13(12,-3) D14(13,-3) D15(14,-3) D16(15,-3) D17(16,-3) D18(17,-3) D19(18,-3) D20(19,-3) D21(20,-3) D22(21,-3) D23(22,-3) D24(23,-3) D25(24,-3) D26(25,-3) D27(26,-3) D28(27,-3) D29(28,-3) D30(29,-3) E1(0,-4) E2(1,-4) E3(2,-4) E4(3,-4) E5(4,-4) E6(5,-4) E7(6,-4) E8(7,-4) E9(8,-4) E10(9,-4) E11(10,-4) E12(11,-4) E13(12,-4) E14(13,-4) E15(14,-4) E16(15,-4) E17(16,-4) E18(17,-4) E19(18,-4) E20(19,-4) E21(20,-4) E22(21,-4) E23(22,-4) E24(23,-4) E25(24,-4) E26(25,-4) E27(26,-4) E28(27,-4) E29(28,-4) E30(29,-4) F1(0,-5) F2(1,-5) F3(2,-5) F4(3,-5) F5(4,-5) F6(5,-5) F7(6,-5) F8(7,-5) F9(8,-5) F10(9,-5) F11(10,-5) F12(11,-5) F13(12,-5) F14(13,-5) F15(14,-5) F16(15,-5) F17(16,-5) F18(17,-5) F19(18,-5) F20(19,-5) F21(20,-5) F22(21,-5) F23(22,-5) F24(23,-5) F25(24,-5) F26(25,-5) F27(26,-5) F28(27,-5) F29(28,-5) F30(29,-5) G1(0,-6) G2(1,-6) G3(2,-6) G4(3,-6) G5(4,-6) G6(5,-6) G7(6,-6) G8(7,-6) G9(8,-6) G10(9,-6) G11(10,-6) G12(11,-6) G13(12,-6) G14(13,-6) G15(14,-6) G16(15,-6) G17(16,-6) G18(17,-6) G19(18,-6) G20(19,-6) G21(20,-6) G22(21,-6) G23(22,-6) G24(23,-6) G25(24,-6) G26(25,-6) G27(26,-6) G28(27,-6) G29(28,-6) G30(29,-6) H1(0,-7) H2(1,-7) H3(2,-7) H4(3,-7) H5(4,-7) H6(5,-7) H7(6,-7) H8(7,-7) H9(8,-7) H10(9,-7) H11(10,-7) H12(11,-7) H13(12,-7) H14(13,-7) H15(14,-7) H16(15,-7) H17(16,-7) H18(17,-7) H19(18,-7) H20(19,-7) H21(20,-7) H22(21,-7) H23(22,-7) H24(23,-7) H25(24,-7) H26(25,-7) H27(26,-7) H28(27,-7) H29(28,-7) H30(29,-7) J1(0,-8) J2(1,-8) J3(2,-8) J4(3,-8) J5(4,-8) J6(5,-8) J7(6,-8) J8(7,-8) J9(8,-8) J10(9,-8) J11(10,-8) J12(11,-8) J13(12,-8) J14(13,-8) J15(14,-8) J16(15,-8) J17(16,-8) J18(17,-8) J19(18,-8) J20(19,-8) J21(20,-8) J22(21,-8) J23(22,-8) J24(23,-8) J25(24,-8) J26(25,-8) J27(26,-8) J28(27,-8) J29(28,-8) J30(29,-8) K1(0,-9) K2(1,-9) K3(2,-9) K4(3,-9) K5(4,-9) K6(5,-9) K7(6,-9) K8(7,-9) K9(8,-9) K10(9,-9) K11(10,-9) K12(11,-9) K13(12,-9) K14(13,-9) K15(14,-9) K16(15,-9) K17(16,-9) K18(17,-9) K19(18,-9) K20(19,-9) K21(20,-9) K22(21,-9) K23(22,-9) K24(23,-9) K25(24,-9) K26(25,-9) K27(26,-9) K28(27,-9) K29(28,-9) K30(29,-9) L1(0,-10) L2(1,-10) L3(2,-10) L4(3,-10) L5(4,-10) L6(5,-10) L7(6,-10) L8(7,-10) L9(8,-10) L10(9,-10) L11(10,-10) L12(11,-10) L13(12,-10) L14(13,-10) L15(14,-10) L16(15,-10) L17(16,-10) L18(17,-10) L19(18,-10) L20(19,-10) L21(20,-10) L22(21,-10) L23(22,-10) L24(23,-10) L25(24,-10) L26(25,-10) L27(26,-10) L28(27,-10) L29(28,-10) L30(29,-10) M1(0,-11) M2(1,-11) M3(2,-11) M4(3,-11) M5(4,-11) M6(5,-11) M7(6,-11) M8(7,-11) M9(8,-11) M10(9,-11) M11(10,-11) M12(11,-11) M13(12,-11) M14(13,-11) M15(14,-11) M16(15,-11) M17(16,-11) M18(17,-11) M19(18,-11) M20(19,-11) M21(20,-11) M22(21,-11) M23(22,-11) M24(23,-11) M25(24,-11) M26(25,-11) M27(26,-11) M28(27,-11) M29(28,-11) M30(29,-11) N1(0,-12) N2(1,-12) N3(2,-12) N4(3,-12) N5(4,-12) N6(5,-12) N7(6,-12) N8(7,-12) N9(8,-12) N10(9,-12) N11(10,-12) N12(11,-12) N13(12,-12) N14(13,-12) N15(14,-12) N16(15,-12) N17(16,-12) N18(17,-12) N19(18,-12) N20(19,-12) N21(20,-12) N22(21,-12) N23(22,-12) N24(23,-12) N25(24,-12) N26(25,-12) N27(26,-12) N28(27,-12) N29(28,-12) N30(29,-12) P1(0,-13) P2(1,-13) P3(2,-13) P4(3,-13) P5(4,-13) P6(5,-13) P7(6,-13) P8(7,-13) P9(8,-13) P10(9,-13) P11(10,-13) P12(11,-13) P13(12,-13) P14(13,-13) P15(14,-13) P16(15,-13) P17(16,-13) P18(17,-13) P19(18,-13) P20(19,-13) P21(20,-13) P22(21,-13) P23(22,-13) P24(23,-13) P25(24,-13) P26(25,-13) P27(26,-13) P28(27,-13) P29(28,-13) P30(29,-13) R1(0,-14) R2(1,-14) R3(2,-14) R4(3,-14) R5(4,-14) R6(5,-14) R7(6,-14) R8(7,-14) R9(8,-14) R10(9,-14) R11(10,-14) R12(11,-14) R13(12,-14) R14(13,-14) R15(14,-14) R16(15,-14) R17(16,-14) R18(17,-14) R19(18,-14) R20(19,-14) R21(20,-14) R22(21,-14) R23(22,-14) R24(23,-14) R25(24,-14) R26(25,-14) R27(26,-14) R28(27,-14) R29(28,-14) R30(29,-14) T1(0,-15) T2(1,-15) T3(2,-15) T4(3,-15) T5(4,-15) T6(5,-15) T7(6,-15) T8(7,-15) T9(8,-15) T10(9,-15) T11(10,-15) T12(11,-15) T13(12,-15) T14(13,-15) T15(14,-15) T16(15,-15) T17(16,-15) T18(17,-15) T19(18,-15) T20(19,-15) T21(20,-15) T22(21,-15) T23(22,-15) T24(23,-15) T25(24,-15) T26(25,-15) T27(26,-15) T28(27,-15) T29(28,-15) T30(29,-15) U1(0,-16) U2(1,-16) U3(2,-16) U4(3,-16) U5(4,-16) U6(5,-16) U7(6,-16) U8(7,-16) U9(8,-16) U10(9,-16) U11(10,-16) U12(11,-16) U13(12,-16) U14(13,-16) U15(14,-16) U16(15,-16) U17(16,-16) U18(17,-16) U19(18,-16) U20(19,-16) U21(20,-16) U22(21,-16) U23(22,-16) U24(23,-16) U25(24,-16) U26(25,-16) U27(26,-16) U28(27,-16) U29(28,-16) U30(29,-16) V1(0,-17) V2(1,-17) V3(2,-17) V4(3,-17) V5(4,-17) V6(5,-17) V7(6,-17) V8(7,-17) V9(8,-17) V10(9,-17) V11(10,-17) V12(11,-17) V13(12,-17) V14(13,-17) V15(14,-17) V16(15,-17) V17(16,-17) V18(17,-17) V19(18,-17) V20(19,-17) V21(20,-17) V22(21,-17) V23(22,-17) V24(23,-17) V25(24,-17) V26(25,-17) V27(26,-17) V28(27,-17) V29(28,-17) V30(29,-17) W1(0,-18) W2(1,-18) W3(2,-18) W4(3,-18) W5(4,-18) W6(5,-18) W7(6,-18) W8(7,-18) W9(8,-18) W10(9,-18) W11(10,-18) W12(11,-18) W13(12,-18) W14(13,-18) W15(14,-18) W16(15,-18) W17(16,-18) W18(17,-18) W19(18,-18) W20(19,-18) W21(20,-18) W22(21,-18) W23(22,-18) W24(23,-18) W25(24,-18) W26(25,-18) W27(26,-18) W28(27,-18) W29(28,-18) W30(29,-18) Y1(0,-19) Y2(1,-19) Y3(2,-19) Y4(3,-19) Y5(4,-19) Y6(5,-19) Y7(6,-19) Y8(7,-19) Y9(8,-19) Y10(9,-19) Y11(10,-19) Y12(11,-19) Y13(12,-19) Y14(13,-19) Y15(14,-19) Y16(15,-19) Y17(16,-19) Y18(17,-19) Y19(18,-19) Y20(19,-19) Y21(20,-19) Y22(21,-19) Y23(22,-19) Y24(23,-19) Y25(24,-19) Y26(25,-19) Y27(26,-19) Y28(27,-19) Y29(28,-19) Y30(29,-19)
Top Overlay:
  lines w0.2: -1,-30 30,-30 30,1 -0.5,1 -1,0.5 -1,-30

## BGA900x30 - duplicate [mm]
pads (900):
  round 0.6 smd: A1(0,0) A2(1,0) A3(2,0) A4(3,0) A5(4,0) A6(5,0) A7(6,0) A8(7,0) A9(8,0) A10(9,0) A11(10,0) A12(11,0) A13(12,0) A14(13,0) A15(14,0) A16(15,0) A17(16,0) A18(17,0) A19(18,0) A20(19,0) A21(20,0) A22(21,0) A23(22,0) A24(23,0) A25(24,0) A26(25,0) A27(26,0) A28(27,0) A29(28,0) A30(29,0) AA1(0,-20) AA2(1,-20) AA3(2,-20) AA4(3,-20) AA5(4,-20) AA6(5,-20) AA7(6,-20) AA8(7,-20) AA9(8,-20) AA10(9,-20) AA11(10,-20) AA12(11,-20) AA13(12,-20) AA14(13,-20) AA15(14,-20) AA16(15,-20) AA17(16,-20) AA18(17,-20) AA19(18,-20) AA20(19,-20) AA21(20,-20) AA22(21,-20) AA23(22,-20) AA24(23,-20) AA25(24,-20) AA26(25,-20) AA27(26,-20) AA28(27,-20) AA29(28,-20) AA30(29,-20) AB1(0,-21) AB2(1,-21) AB3(2,-21) AB4(3,-21) AB5(4,-21) AB6(5,-21) AB7(6,-21) AB8(7,-21) AB9(8,-21) AB10(9,-21) AB11(10,-21) AB12(11,-21) AB13(12,-21) AB14(13,-21) AB15(14,-21) AB16(15,-21) AB17(16,-21) AB18(17,-21) AB19(18,-21) AB20(19,-21) AB21(20,-21) AB22(21,-21) AB23(22,-21) AB24(23,-21) AB25(24,-21) AB26(25,-21) AB27(26,-21) AB28(27,-21) AB29(28,-21) AB30(29,-21) AC1(0,-22) AC2(1,-22) AC3(2,-22) AC4(3,-22) AC5(4,-22) AC6(5,-22) AC7(6,-22) AC8(7,-22) AC9(8,-22) AC10(9,-22) AC11(10,-22) AC12(11,-22) AC13(12,-22) AC14(13,-22) AC15(14,-22) AC16(15,-22) AC17(16,-22) AC18(17,-22) AC19(18,-22) AC20(19,-22) AC21(20,-22) AC22(21,-22) AC23(22,-22) AC24(23,-22) AC25(24,-22) AC26(25,-22) AC27(26,-22) AC28(27,-22) AC29(28,-22) AC30(29,-22) AD1(0,-23) AD2(1,-23) AD3(2,-23) AD4(3,-23) AD5(4,-23) AD6(5,-23) AD7(6,-23) AD8(7,-23) AD9(8,-23) AD10(9,-23) AD11(10,-23) AD12(11,-23) AD13(12,-23) AD14(13,-23) AD15(14,-23) AD16(15,-23) AD17(16,-23) AD18(17,-23) AD19(18,-23) AD20(19,-23) AD21(20,-23) AD22(21,-23) AD23(22,-23) AD24(23,-23) AD25(24,-23) AD26(25,-23) AD27(26,-23) AD28(27,-23) AD29(28,-23) AD30(29,-23) AE1(0,-24) AE2(1,-24) AE3(2,-24) AE4(3,-24) AE5(4,-24) AE6(5,-24) AE7(6,-24) AE8(7,-24) AE9(8,-24) AE10(9,-24) AE11(10,-24) AE12(11,-24) AE13(12,-24) AE14(13,-24) AE15(14,-24) AE16(15,-24) AE17(16,-24) AE18(17,-24) AE19(18,-24) AE20(19,-24) AE21(20,-24) AE22(21,-24) AE23(22,-24) AE24(23,-24) AE25(24,-24) AE26(25,-24) AE27(26,-24) AE28(27,-24) AE29(28,-24) AE30(29,-24) AF1(0,-25) AF2(1,-25) AF3(2,-25) AF4(3,-25) AF5(4,-25) AF6(5,-25) AF7(6,-25) AF8(7,-25) AF9(8,-25) AF10(9,-25) AF11(10,-25) AF12(11,-25) AF13(12,-25) AF14(13,-25) AF15(14,-25) AF16(15,-25) AF17(16,-25) AF18(17,-25) AF19(18,-25) AF20(19,-25) AF21(20,-25) AF22(21,-25) AF23(22,-25) AF24(23,-25) AF25(24,-25) AF26(25,-25) AF27(26,-25) AF28(27,-25) AF29(28,-25) AF30(29,-25) AG1(0,-26) AG2(1,-26) AG3(2,-26) AG4(3,-26) AG5(4,-26) AG6(5,-26) AG7(6,-26) AG8(7,-26) AG9(8,-26) AG10(9,-26) AG11(10,-26) AG12(11,-26) AG13(12,-26) AG14(13,-26) AG15(14,-26) AG16(15,-26) AG17(16,-26) AG18(17,-26) AG19(18,-26) AG20(19,-26) AG21(20,-26) AG22(21,-26) AG23(22,-26) AG24(23,-26) AG25(24,-26) AG26(25,-26) AG27(26,-26) AG28(27,-26) AG29(28,-26) AG30(29,-26) AH1(0,-27) AH2(1,-27) AH3(2,-27) AH4(3,-27) AH5(4,-27) AH6(5,-27) AH7(6,-27) AH8(7,-27) AH9(8,-27) AH10(9,-27) AH11(10,-27) AH12(11,-27) AH13(12,-27) AH14(13,-27) AH15(14,-27) AH16(15,-27) AH17(16,-27) AH18(17,-27) AH19(18,-27) AH20(19,-27) AH21(20,-27) AH22(21,-27) AH23(22,-27) AH24(23,-27) AH25(24,-27) AH26(25,-27) AH27(26,-27) AH28(27,-27) AH29(28,-27) AH30(29,-27) AJ1(0,-28) AJ2(1,-28) AJ3(2,-28) AJ4(3,-28) AJ5(4,-28) AJ6(5,-28) AJ7(6,-28) AJ8(7,-28) AJ9(8,-28) AJ10(9,-28) AJ11(10,-28) AJ12(11,-28) AJ13(12,-28) AJ14(13,-28) AJ15(14,-28) AJ16(15,-28) AJ17(16,-28) AJ18(17,-28) AJ19(18,-28) AJ20(19,-28) AJ21(20,-28) AJ22(21,-28) AJ23(22,-28) AJ24(23,-28) AJ25(24,-28) AJ26(25,-28) AJ27(26,-28) AJ28(27,-28) AJ29(28,-28) AJ30(29,-28) AK1(0,-29) AK2(1,-29) AK3(2,-29) AK4(3,-29) AK5(4,-29) AK6(5,-29) AK7(6,-29) AK8(7,-29) AK9(8,-29) AK10(9,-29) AK11(10,-29) AK12(11,-29) AK13(12,-29) AK14(13,-29) AK15(14,-29) AK16(15,-29) AK17(16,-29) AK18(17,-29) AK19(18,-29) AK20(19,-29) AK21(20,-29) AK22(21,-29) AK23(22,-29) AK24(23,-29) AK25(24,-29) AK26(25,-29) AK27(26,-29) AK28(27,-29) AK29(28,-29) AK30(29,-29) B1(0,-1) B2(1,-1) B3(2,-1) B4(3,-1) B5(4,-1) B6(5,-1) B7(6,-1) B8(7,-1) B9(8,-1) B10(9,-1) B11(10,-1) B12(11,-1) B13(12,-1) B14(13,-1) B15(14,-1) B16(15,-1) B17(16,-1) B18(17,-1) B19(18,-1) B20(19,-1) B21(20,-1) B22(21,-1) B23(22,-1) B24(23,-1) B25(24,-1) B26(25,-1) B27(26,-1) B28(27,-1) B29(28,-1) B30(29,-1) C1(0,-2) C2(1,-2) C3(2,-2) C4(3,-2) C5(4,-2) C6(5,-2) C7(6,-2) C8(7,-2) C9(8,-2) C10(9,-2) C11(10,-2) C12(11,-2) C13(12,-2) C14(13,-2) C15(14,-2) C16(15,-2) C17(16,-2) C18(17,-2) C19(18,-2) C20(19,-2) C21(20,-2) C22(21,-2) C23(22,-2) C24(23,-2) C25(24,-2) C26(25,-2) C27(26,-2) C28(27,-2) C29(28,-2) C30(29,-2) D1(0,-3) D2(1,-3) D3(2,-3) D4(3,-3) D5(4,-3) D6(5,-3) D7(6,-3) D8(7,-3) D9(8,-3) D10(9,-3) D11(10,-3) D12(11,-3) D13(12,-3) D14(13,-3) D15(14,-3) D16(15,-3) D17(16,-3) D18(17,-3) D19(18,-3) D20(19,-3) D21(20,-3) D22(21,-3) D23(22,-3) D24(23,-3) D25(24,-3) D26(25,-3) D27(26,-3) D28(27,-3) D29(28,-3) D30(29,-3) E1(0,-4) E2(1,-4) E3(2,-4) E4(3,-4) E5(4,-4) E6(5,-4) E7(6,-4) E8(7,-4) E9(8,-4) E10(9,-4) E11(10,-4) E12(11,-4) E13(12,-4) E14(13,-4) E15(14,-4) E16(15,-4) E17(16,-4) E18(17,-4) E19(18,-4) E20(19,-4) E21(20,-4) E22(21,-4) E23(22,-4) E24(23,-4) E25(24,-4) E26(25,-4) E27(26,-4) E28(27,-4) E29(28,-4) E30(29,-4) F1(0,-5) F2(1,-5) F3(2,-5) F4(3,-5) F5(4,-5) F6(5,-5) F7(6,-5) F8(7,-5) F9(8,-5) F10(9,-5) F11(10,-5) F12(11,-5) F13(12,-5) F14(13,-5) F15(14,-5) F16(15,-5) F17(16,-5) F18(17,-5) F19(18,-5) F20(19,-5) F21(20,-5) F22(21,-5) F23(22,-5) F24(23,-5) F25(24,-5) F26(25,-5) F27(26,-5) F28(27,-5) F29(28,-5) F30(29,-5) G1(0,-6) G2(1,-6) G3(2,-6) G4(3,-6) G5(4,-6) G6(5,-6) G7(6,-6) G8(7,-6) G9(8,-6) G10(9,-6) G11(10,-6) G12(11,-6) G13(12,-6) G14(13,-6) G15(14,-6) G16(15,-6) G17(16,-6) G18(17,-6) G19(18,-6) G20(19,-6) G21(20,-6) G22(21,-6) G23(22,-6) G24(23,-6) G25(24,-6) G26(25,-6) G27(26,-6) G28(27,-6) G29(28,-6) G30(29,-6) H1(0,-7) H2(1,-7) H3(2,-7) H4(3,-7) H5(4,-7) H6(5,-7) H7(6,-7) H8(7,-7) H9(8,-7) H10(9,-7) H11(10,-7) H12(11,-7) H13(12,-7) H14(13,-7) H15(14,-7) H16(15,-7) H17(16,-7) H18(17,-7) H19(18,-7) H20(19,-7) H21(20,-7) H22(21,-7) H23(22,-7) H24(23,-7) H25(24,-7) H26(25,-7) H27(26,-7) H28(27,-7) H29(28,-7) H30(29,-7) J1(0,-8) J2(1,-8) J3(2,-8) J4(3,-8) J5(4,-8) J6(5,-8) J7(6,-8) J8(7,-8) J9(8,-8) J10(9,-8) J11(10,-8) J12(11,-8) J13(12,-8) J14(13,-8) J15(14,-8) J16(15,-8) J17(16,-8) J18(17,-8) J19(18,-8) J20(19,-8) J21(20,-8) J22(21,-8) J23(22,-8) J24(23,-8) J25(24,-8) J26(25,-8) J27(26,-8) J28(27,-8) J29(28,-8) J30(29,-8) K1(0,-9) K2(1,-9) K3(2,-9) K4(3,-9) K5(4,-9) K6(5,-9) K7(6,-9) K8(7,-9) K9(8,-9) K10(9,-9) K11(10,-9) K12(11,-9) K13(12,-9) K14(13,-9) K15(14,-9) K16(15,-9) K17(16,-9) K18(17,-9) K19(18,-9) K20(19,-9) K21(20,-9) K22(21,-9) K23(22,-9) K24(23,-9) K25(24,-9) K26(25,-9) K27(26,-9) K28(27,-9) K29(28,-9) K30(29,-9) L1(0,-10) L2(1,-10) L3(2,-10) L4(3,-10) L5(4,-10) L6(5,-10) L7(6,-10) L8(7,-10) L9(8,-10) L10(9,-10) L11(10,-10) L12(11,-10) L13(12,-10) L14(13,-10) L15(14,-10) L16(15,-10) L17(16,-10) L18(17,-10) L19(18,-10) L20(19,-10) L21(20,-10) L22(21,-10) L23(22,-10) L24(23,-10) L25(24,-10) L26(25,-10) L27(26,-10) L28(27,-10) L29(28,-10) L30(29,-10) M1(0,-11) M2(1,-11) M3(2,-11) M4(3,-11) M5(4,-11) M6(5,-11) M7(6,-11) M8(7,-11) M9(8,-11) M10(9,-11) M11(10,-11) M12(11,-11) M13(12,-11) M14(13,-11) M15(14,-11) M16(15,-11) M17(16,-11) M18(17,-11) M19(18,-11) M20(19,-11) M21(20,-11) M22(21,-11) M23(22,-11) M24(23,-11) M25(24,-11) M26(25,-11) M27(26,-11) M28(27,-11) M29(28,-11) M30(29,-11) N1(0,-12) N2(1,-12) N3(2,-12) N4(3,-12) N5(4,-12) N6(5,-12) N7(6,-12) N8(7,-12) N9(8,-12) N10(9,-12) N11(10,-12) N12(11,-12) N13(12,-12) N14(13,-12) N15(14,-12) N16(15,-12) N17(16,-12) N18(17,-12) N19(18,-12) N20(19,-12) N21(20,-12) N22(21,-12) N23(22,-12) N24(23,-12) N25(24,-12) N26(25,-12) N27(26,-12) N28(27,-12) N29(28,-12) N30(29,-12) P1(0,-13) P2(1,-13) P3(2,-13) P4(3,-13) P5(4,-13) P6(5,-13) P7(6,-13) P8(7,-13) P9(8,-13) P10(9,-13) P11(10,-13) P12(11,-13) P13(12,-13) P14(13,-13) P15(14,-13) P16(15,-13) P17(16,-13) P18(17,-13) P19(18,-13) P20(19,-13) P21(20,-13) P22(21,-13) P23(22,-13) P24(23,-13) P25(24,-13) P26(25,-13) P27(26,-13) P28(27,-13) P29(28,-13) P30(29,-13) R1(0,-14) R2(1,-14) R3(2,-14) R4(3,-14) R5(4,-14) R6(5,-14) R7(6,-14) R8(7,-14) R9(8,-14) R10(9,-14) R11(10,-14) R12(11,-14) R13(12,-14) R14(13,-14) R15(14,-14) R16(15,-14) R17(16,-14) R18(17,-14) R19(18,-14) R20(19,-14) R21(20,-14) R22(21,-14) R23(22,-14) R24(23,-14) R25(24,-14) R26(25,-14) R27(26,-14) R28(27,-14) R29(28,-14) R30(29,-14) T1(0,-15) T2(1,-15) T3(2,-15) T4(3,-15) T5(4,-15) T6(5,-15) T7(6,-15) T8(7,-15) T9(8,-15) T10(9,-15) T11(10,-15) T12(11,-15) T13(12,-15) T14(13,-15) T15(14,-15) T16(15,-15) T17(16,-15) T18(17,-15) T19(18,-15) T20(19,-15) T21(20,-15) T22(21,-15) T23(22,-15) T24(23,-15) T25(24,-15) T26(25,-15) T27(26,-15) T28(27,-15) T29(28,-15) T30(29,-15) U1(0,-16) U2(1,-16) U3(2,-16) U4(3,-16) U5(4,-16) U6(5,-16) U7(6,-16) U8(7,-16) U9(8,-16) U10(9,-16) U11(10,-16) U12(11,-16) U13(12,-16) U14(13,-16) U15(14,-16) U16(15,-16) U17(16,-16) U18(17,-16) U19(18,-16) U20(19,-16) U21(20,-16) U22(21,-16) U23(22,-16) U24(23,-16) U25(24,-16) U26(25,-16) U27(26,-16) U28(27,-16) U29(28,-16) U30(29,-16) V1(0,-17) V2(1,-17) V3(2,-17) V4(3,-17) V5(4,-17) V6(5,-17) V7(6,-17) V8(7,-17) V9(8,-17) V10(9,-17) V11(10,-17) V12(11,-17) V13(12,-17) V14(13,-17) V15(14,-17) V16(15,-17) V17(16,-17) V18(17,-17) V19(18,-17) V20(19,-17) V21(20,-17) V22(21,-17) V23(22,-17) V24(23,-17) V25(24,-17) V26(25,-17) V27(26,-17) V28(27,-17) V29(28,-17) V30(29,-17) W1(0,-18) W2(1,-18) W3(2,-18) W4(3,-18) W5(4,-18) W6(5,-18) W7(6,-18) W8(7,-18) W9(8,-18) W10(9,-18) W11(10,-18) W12(11,-18) W13(12,-18) W14(13,-18) W15(14,-18) W16(15,-18) W17(16,-18) W18(17,-18) W19(18,-18) W20(19,-18) W21(20,-18) W22(21,-18) W23(22,-18) W24(23,-18) W25(24,-18) W26(25,-18) W27(26,-18) W28(27,-18) W29(28,-18) W30(29,-18) Y1(0,-19) Y2(1,-19) Y3(2,-19) Y4(3,-19) Y5(4,-19) Y6(5,-19) Y7(6,-19) Y8(7,-19) Y9(8,-19) Y10(9,-19) Y11(10,-19) Y12(11,-19) Y13(12,-19) Y14(13,-19) Y15(14,-19) Y16(15,-19) Y17(16,-19) Y18(17,-19) Y19(18,-19) Y20(19,-19) Y21(20,-19) Y22(21,-19) Y23(22,-19) Y24(23,-19) Y25(24,-19) Y26(25,-19) Y27(26,-19) Y28(27,-19) Y29(28,-19) Y30(29,-19)
Top Overlay:
  lines w0.2: -1,-30 30,-30 30,1 -0.5,1 -1,0.5 -1,-30